# EAGLE library part ESP-M3 (library esp8266modules)
ESP8285 Model M3
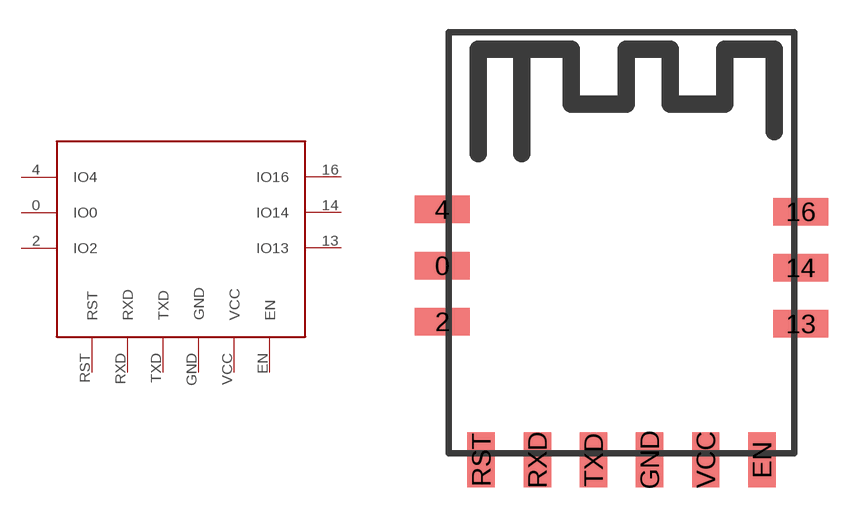
[diagram p19: symbol with the pads of ESP-M3; footprint ESP-M3]

Designator prefix -

## ESP-M3  [ESP-M3]
0  IO0
2  IO2
4  IO4
13  IO13
14  IO14
16  IO16
EN  EN
GND  GND
RST  RST
RXD  RXD
TXD  TXD
VCC  VCC

## Footprint ESP-M3 (pad centres in mm)
ESP8285 Model M3
smd 2.54 x 1.27: 0 -10.8,0.9; 2 -10.8,-1.7; 4 -10.8,3.5; 13 5.8,-1.8; 14 5.8,0.8; 16 5.8,3.4
smd 1.27 x 2.54: EN 4,-8.1; GND -1.2,-8.1; RST -9,-8.1; RXD -6.4,-8.1; TXD -3.8,-8.1; VCC 1.4,-8.1